# Altium schematic symbol library SamacSys_Parts.SchLib: 52 symbols
Pins are listed as number, name and electrical type; pins without a type are passive.

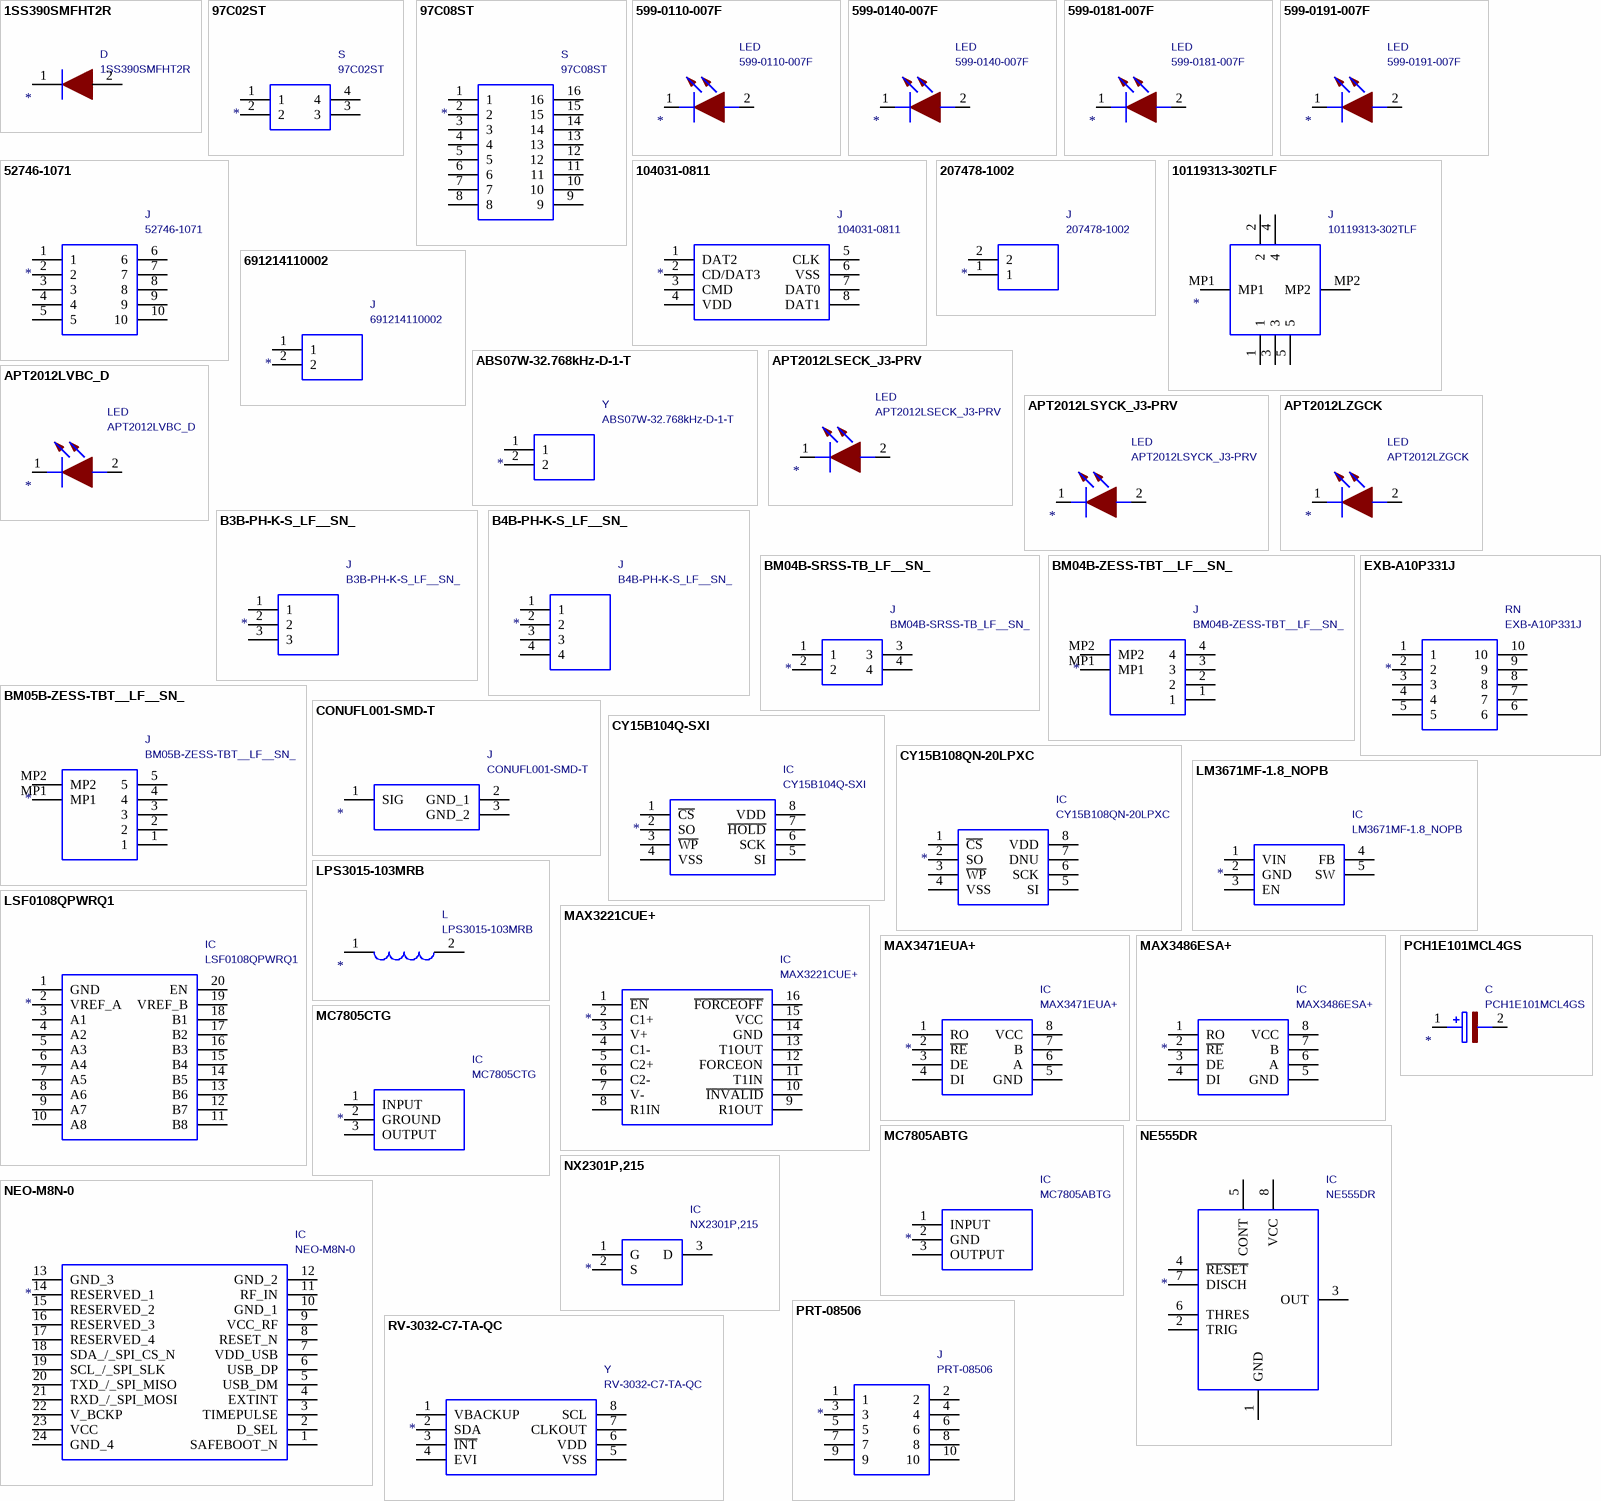
[diagram p0: symbols 1SS390SMFHT2R to RV-3032-C7-TA-QC]

## 1SS390SMFHT2R
designator D  value 1SS390SMFHT2R
Diodes - General Purpose, Power, Switching Band Switching Diode EMD2; Manufacturer_Name: ROHM Semiconductor; Footprint: SODFL1608X70N; Supplier: https://componentsearchengine.com/Datasheets/2/1SS390SMFHT2R.pdf; Description_: Diodes - General Purpose, Power, Switching Band Switching Diode EMD2; Height: 0.7; Mouser Part Number: 755-1SS390SMFHT2R; Mouser Price/Stock: https://www.mouser.co.uk/ProductDetail/ROHM-Semiconductor/1SS390SMFHT2R?qs=0lSvoLzn4L%2FO2HkvK5CJsQ%3D%3D; Manufacturer_Part_Number: 1SS390SMFHT2R
footprint SODFL1608X70N
pins: 1, 2

## 97C02ST
designator S  value 97C02ST
2 Way Surface Mount Slide Switch SPST; Manufacturer_Name: Grayhill; Footprint: SOIC127P671X150-4N; Supplier: https://componentsearchengine.com/Datasheets/1/97C02ST.pdf; Description_: 2 Way Surface Mount Slide Switch SPST; Height: 1.5; Mouser Part Number: 706-97C02ST; Mouser Price/Stock: https://www.mouser.co.uk/ProductDetail/Grayhill/97C02ST?qs=ls7QRyWmRk54avEDvMxuYA%3D%3D; Manufacturer_Part_Number: 97C02ST
footprint SOIC127P671X150-4N
pins: 1, 2, 3, 4

## 97C08ST
designator S  value 97C08ST
8 Way Surface Mount Slide Switch SPST; Manufacturer_Name: Grayhill; Footprint: SOIC127P671X170-16N; Supplier: http://www.grayhill.com/search/?Keywords=97C08ST; Description_: 8 Way Surface Mount Slide Switch SPST; Height: 1.7; Mouser Part Number: 706-97C08ST; Mouser Price/Stock: https://www.mouser.co.uk/ProductDetail/Grayhill/97C08ST?qs=ls7QRyWmRk6QAl4Hs3wGtw%3D%3D; Manufacturer_Part_Number: 97C08ST
footprint SOIC127P671X170-16N
pins: 1, 2, 3, 4, 5, 6, 7, 8, 9, 10, 11, 12, 13, 14, 15, 16

## 599-0110-007F
designator LED  value 599-0110-007F
Standard LEDs - SMD SMD 0805 RED; Manufacturer_Name: Dialight; Footprint: LEDM2012X90N; Description_: Standard LEDs - SMD SMD 0805 RED; Height: 0.9; Mouser Part Number: 645-599-0110-007F; Mouser Price/Stock: https://www.mouser.co.uk/ProductDetail/Dialight/599-0110-007F?qs=gTYE2QTfZfS0HtheKY0LlQ%3D%3D; Manufacturer_Part_Number: 599-0110-007F
footprint LEDM2012X90N
pins: 1, 2

## 599-0140-007F
designator LED  value 599-0140-007F
Standard LEDs - SMD SMD 0805 YELLOW; Manufacturer_Name: Dialight; Footprint: LEDC2012X70N; Description_: Standard LEDs - SMD SMD 0805 YELLOW; Height: 0.7; Mouser Part Number: 645-599-0140-007F; Mouser Price/Stock: https://www.mouser.co.uk/ProductDetail/Dialight/599-0140-007F?qs=gTYE2QTfZfQrZszkvWmdFA%3D%3D; Manufacturer_Part_Number: 599-0140-007F
footprint LEDC2012X70N
pins: 1, 2

## 599-0181-007F
designator LED  value 599-0181-007F
Standard LEDs - SMD SMD 0805 GREEN; Manufacturer_Name: Dialight; Footprint: LEDC2012X70N; Description_: Standard LEDs - SMD SMD 0805 GREEN; Height: 0.7; Mouser Part Number: 645-599-0181-007F; Mouser Price/Stock: https://www.mouser.co.uk/ProductDetail/Dialight/599-0181-007F/?qs=gTYE2QTfZfRUSax8JbgA2w%3D%3D; Manufacturer_Part_Number: 599-0181-007F
footprint LEDC2012X70N
pins: 1, 2

## 599-0191-007F
designator LED  value 599-0191-007F
Standard LEDs - SMD SMD 0805 BLUE; Manufacturer_Name: Dialight; Footprint: LEDC2012X90N; Supplier: https://componentsearchengine.com/Datasheets/1/599-0191-007F.pdf; Description_: Standard LEDs - SMD SMD 0805 BLUE; Height: 0.9; Mouser Part Number: 645-599-0191-007F; Mouser Price/Stock: https://www.mouser.co.uk/ProductDetail/Dialight/599-0191-007F/?qs=gTYE2QTfZfTbWzs5Ohdbbg%3D%3D; Manufacturer_Part_Number: 599-0191-007F
footprint LEDC2012X90N
pins: 1, 2

## 52746-1071
designator J  value 52746-1071
0.5 FPC ZIF Housing Assembly RA 10w Molex FFC/FPC SMT Series 0.5mm Pitch 10 Way 1 Row Right Angle SMT Female FPC Connector; Footprint: 52746-1071; Supplier: http://www.molex.com/pdm_docs/sd/527461071_sd.pdf; Description_: 0.5 FPC ZIF Housing Assembly RA 10w Molex FFC/FPC SMT Series 0.5mm Pitch 10 Way 1 Row Right Angle SMT Female FPC Connector; Mouser Part Number: 538-52746-1071; Mouser Price/Stock: https://www.mouser.co.uk/ProductDetail/Molex/52746-1071?qs=gi08C7HaimYPHJccIEZoxg%3D%3D; Manufacturer_Name: Molex; Manufacturer_Part_Number: 52746-1071
footprint 52746-1071
pins: 1, 2, 3, 4, 5, 6, 7, 8, 9, 10

## 104031-0811
designator J  value 104031-0811
microSD 1.10mm SMT push-pull memory card microSD 1.10mm SMT push-pull memory card; Manufacturer_Name: Molex; Footprint: 1040310811; Supplier: http://www.molex.com/webdocs/datasheets/pdf/en-us/1040310811_MEMORY_CARD_SOCKET.pdf; Description_: microSD 1.10mm SMT push-pull memory card microSD 1.10mm SMT push-pull memory card; Mouser Part Number: 538-104031-0811; Mouser Price/Stock: https://www.mouser.co.uk/ProductDetail/Molex/104031-0811?qs=udsGRKD4nA3Tvy7wqky%252BuA%3D%3D; Manufacturer_Part_Number: 104031-0811
footprint 1040310811
pins: 1 DAT2, 2 CD/DAT3, 3 CMD, 4 VDD, 5 CLK, 6 VSS, 7 DAT0, 8 DAT1

## 207478-1002
designator J  value 207478-1002
Power to the Board L1NK 396 HDR VRT UNSHRD 2CKT W/PG Sn; Manufacturer_Name: Molex; Footprint: 2074781002; Supplier: https://componentsearchengine.com/Datasheets/1/207478-1002.pdf; Description_: Power to the Board L1NK 396 HDR VRT UNSHRD 2CKT W/PG Sn; Height: 14.35; Mouser Part Number: 538-207478-1002; Mouser Price/Stock: https://www.mouser.co.uk/ProductDetail/Molex/207478-1002?qs=d9U39LAeJF0u%2FwtSMgHBRw%3D%3D; Manufacturer_Part_Number: 207478-1002
footprint 2074781002
pins: 1, 2

## 10119313-302TLF
designator J  value 10119313-302TLF
USB Connectors 10119313-302TLF-MINI USB 6PF VERTICAL TY; Manufacturer_Name: Amphenol; Footprint: 10119313302TLF; Supplier: https://www.arrow.com/en/products/10119313-302tlf/amphenol-fci; Description_: USB Connectors 10119313-302TLF-MINI USB 6PF VERTICAL TY; Height: 9.55; Mouser Part Number: 649-10119313-302TLF; Mouser Price/Stock: https://www.mouser.co.uk/ProductDetail/Amphenol-FCI/10119313-302TLF/?qs=QcFhgjUTvvpTzLjwlVEXAA%3D%3D; Manufacturer_Part_Number: 10119313-302TLF
footprint 10119313302TLF
pins: 1, 2, 3, 4, 5, MP1, MP2

## 691214110002
designator J  value 691214110002
3.5MM HORIZONTAL ENTRY MODULAR WITH RISING CAGE CLAMP - WR-TBL, 2 pos; Manufacturer_Name: Wurth Elektronik; Footprint: 691214110002; Description_: 3.5MM HORIZONTAL ENTRY MODULAR WITH RISING CAGE CLAMP - WR-TBL, 2 pos; Height: 8.7; Mouser Part Number: 710-691214110002; Mouser Price/Stock: https://www.mouser.co.uk/ProductDetail/Wurth-Elektronik/691214110002?qs=7gQLVZk5cPmb9EqUyfv%252B2g%3D%3D; Manufacturer_Part_Number: 691214110002
footprint 691214110002
pins: 1, 2

## ABS07W-32.768kHz-D-1-T
designator Y  value ABS07W-32.768kHz-D-1-T
Abracon 32.768kHz Crystal 2-SMD, No Lead 3.2 x1.5 x 0.9mm; Footprint: ABS07AIG32768kHz71T; Supplier: https://abracon.com/iotoptimized_quartzcrystals/assets/ABS07W.pdf; Description_: Abracon 32.768kHz Crystal 2-SMD, No Lead 3.2 x1.5 x 0.9mm; Height: 0; Mouser Part Number: 815-ABS07W32.768KD1T; Mouser Price/Stock: https://www.mouser.co.uk/ProductDetail/ABRACON/ABS07W-32768kHz-D-1-T?qs=gt1LBUVyoHkAxRCX40dcAg%3D%3D; Manufacturer_Name: ABRACON; Manufacturer_Part_Number: ABS07W-32.768kHz-D-1-T
footprint ABS07AIG32768kHz71T
pins: 1, 2

## APT2012LSECK_J3-PRV
designator LED  value APT2012LSECK_J3-PRV
Standard LEDs - SMD 2.0X1.2MM LOW CRNT; Manufacturer_Name: Kingbright; Manufacturer_Part_Number: APT2012LSECK/J3-PRV; Footprint: LEDC2012X75N; Supplier: http://www.kingbrightusa.com/images/catalog/SPEC/APT2012LSECK-J3-PRV.pdf; Description_: Standard LEDs - SMD 2.0X1.2MM LOW CRNT; Height: 0.75; Mouser Part Number: 604-APT2012LSECKJ3RV; Mouser Price/Stock: https://www.mouser.co.uk/ProductDetail/Kingbright/APT2012LSECK-J3-PRV?qs=6oMev5NRZMEkGJkKIsAalQ%3D%3D
footprint LEDC2012X75N
pins: 1, 2

## APT2012LSYCK_J3-PRV
designator LED  value APT2012LSYCK_J3-PRV
Standard LEDs - SMD 2.0X1.2MM LOW CRNT; Manufacturer_Name: Kingbright; Manufacturer_Part_Number: APT2012LSYCK/J3-PRV; Footprint: LEDC2012X85N; Supplier: http://www.kingbrightusa.com/images/catalog/SPEC/APT2012LSYCK-J3-PRV.pdf; Description_: Standard LEDs - SMD 2.0X1.2MM LOW CRNT; Height: 0.85; Mouser Part Number: 604-APT2012LSYCKJ3RV; Mouser Price/Stock: https://www.mouser.co.uk/ProductDetail/Kingbright/APT2012LSYCK-J3-PRV?qs=6oMev5NRZMGoWLCc4feqUg%3D%3D
footprint LEDC2012X85N
pins: 1, 2

## APT2012LVBC_D
designator LED  value APT2012LVBC_D
Standard LEDs - SMD 2.0X1.2MM LOW CRNT; Manufacturer_Name: Kingbright; Manufacturer_Part_Number: APT2012LVBC/D; Footprint: LEDC2012X85N; Supplier: https://componentsearchengine.com/Datasheets/1/APT2012LVBC_D.pdf; Description_: Standard LEDs - SMD 2.0X1.2MM LOW CRNT; Height: 0.85; Mouser Part Number: 604-APT2012LVBCD; Mouser Price/Stock: https://www.mouser.co.uk/ProductDetail/Kingbright/APT2012LVBC-D?qs=6oMev5NRZMGErJYT6KZLXg%3D%3D
footprint LEDC2012X85N
pins: 1, 2

## APT2012LZGCK
designator LED  value APT2012LZGCK
Standard LEDs - SMD 2.0X1.2MM LOW CRNT; Manufacturer_Name: Kingbright; Footprint: LEDC2012X85N; Supplier: http://www.kingbrightusa.com/images/catalog/SPEC/APT2012LZGCK.pdf; Description_: Standard LEDs - SMD 2.0X1.2MM LOW CRNT; Height: 0.85; Mouser Part Number: 604-APT2012LZGCK; Mouser Price/Stock: https://www.mouser.co.uk/ProductDetail/Kingbright/APT2012LZGCK?qs=6oMev5NRZMHOosFiXb%2F3qw%3D%3D; Manufacturer_Part_Number: APT2012LZGCK
footprint LEDC2012X85N
pins: 1, 2

## B3B-PH-K-S_LF__SN_
designator J  value B3B-PH-K-S_LF__SN_
WIRE-BOARD CONNECTOR, HEADER, 3 POSITION, 2MM; Pitch Spacing:2mm; No. of Contacts:3Contacts; Gender:Header; Product Range:PH Series; Contact Termination Type:Crimp; No. of Rows:1Rows; Contact Plating:Tin Plated Contacts RoHS Compliant: Yes; Manufacturer_Name: JST Sales America; Manufacturer_Part_Number: B3B-PH-K-S(LF)(SN); Footprint: SHDR3W50P0X200_1X3_790X450X600P; Supplier: http://www.jst-mfg.com/product/pdf/eng/ePH.pdf; Description_: WIRE-BOARD CONNECTOR, HEADER, 3 POSITION, 2MM; Pitch Spacing:2mm; No. of Contacts:3Contacts; Gender:Header; Product Range:PH Series; Contact Termination Type:Crimp; No. of Rows:1Rows; Contact Plating:Tin Plated Contacts RoHS Compliant: Yes; Height: 6
footprint SHDR3W50P0X200_1X3_790X450X600P
pins: 1, 2, 3

## B4B-PH-K-S_LF__SN_
designator J  value B4B-PH-K-S_LF__SN_
PH-2.0mm Header top entry 4 way JST PH Series, Series Number B4B, 2mm Pitch 4 Way 1 Row Straight PCB Header, Through Hole Termination, 2A; Manufacturer_Name: JST (JAPAN SOLDERLESS TERMINALS); Manufacturer_Part_Number: B4B-PH-K-S(LF)(SN); Footprint: SHDR4W50P0X200_1X4_990X450X600P; Description_: PH-2.0mm Header top entry 4 way JST PH Series, Series Number B4B, 2mm Pitch 4 Way 1 Row Straight PCB Header, Through Hole Termination, 2A; Height: 6
footprint SHDR4W50P0X200_1X4_990X450X600P
pins: 1, 2, 3, 4

## BM04B-SRSS-TB_LF__SN_
designator J  value BM04B-SRSS-TB_LF__SN_
JST (JAPAN SOLDERLESS TERMINALS) - BM04B-SRSS-TB(LF)(SN) - HEADER, TOP ENTRY, 4WAY; Footprint: BM04B-SRSS-TB(LFSN); Supplier: http://www.jst.fr/core/file.get?path=doc/jst/family/pdf/eSH.pdf; Description_: JST (JAPAN SOLDERLESS TERMINALS) - BM04B-SRSS-TB(LF)(SN) - HEADER, TOP ENTRY, 4WAY; Manufacturer_Name: JST (JAPAN SOLDERLESS TERMINALS); Manufacturer_Part_Number: BM04B-SRSS-TB(LF)(SN)
footprint BM04B-SRSS-TB(LFSN)
pins: 1, 2, 3, 4

## BM04B-ZESS-TBT__LF__SN_
designator J  value BM04B-ZESS-TBT__LF__SN_
JST ZE Series, Series Number BM04B, 1.5mm Pitch 4 Way 1 Row Straight PCB Header, SMT Termination, 2A; Manufacturer_Name: JST (JAPAN SOLDERLESS TERMINALS); Manufacturer_Part_Number: BM04B-ZESS-TBT (LF)(SN); Footprint: BM04BZESSTBTLFSN; Supplier: http://www.jst-mfg.com/product/pdf/eng/eZE.pdf; Description_: JST ZE Series, Series Number BM04B, 1.5mm Pitch 4 Way 1 Row Straight PCB Header, SMT Termination, 2A; Height: 5.8; Arrow Part Number: BM04B-ZESS-TBT (LF)(SN); Arrow Price/Stock: https://www.arrow.com/en/products/bm04b-zess-tbt-lf-sn/jst-manufacturing
footprint BM04BZESSTBTLFSN
pins: 1, 2, 3, 4, MP1, MP2

## BM05B-ZESS-TBT__LF__SN_
designator J  value BM05B-ZESS-TBT__LF__SN_
ZE-1.5mm SMT taped 5way Header+suction JST ZE Series, Series Number BM0B, 1.5mm Pitch 5 Way 1 Row Shrouded Straight PCB Header, Surface Mount; Manufacturer_Name: JST (JAPAN SOLDERLESS TERMINALS); Manufacturer_Part_Number: BM05B-ZESS-TBT (LF)(SN); Footprint: BM05BZESSTBTLFSN; Supplier: https://www.arrow.com/en/products/bm05b-zess-tbt-lf-sn/jst-manufacturing; Description_: ZE-1.5mm SMT taped 5way Header+suction JST ZE Series, Series Number BM0B, 1.5mm Pitch 5 Way 1 Row Shrouded Straight PCB Header, Surface Mount; Height: 7.5; Arrow Part Number: BM05B-ZESS-TBT (LF)(SN); Arrow Price/Stock: https://www.arrow.com/en/products/bm05b-zess-tbt-lf-sn/jst-manufacturing
footprint BM05BZESSTBTLFSN
pins: 1, 2, 3, 4, 5, MP1, MP2

## CONUFL001-SMD-T
designator J  value CONUFL001-SMD-T
RF Connectors / Coaxial Connectors T&R U.FL Straight Surface Mount Jack; Manufacturer_Name: Linx Technologies; Footprint: CONUFL001-SMD; Supplier: https://linxtechnologies.com/wp/product/mhf-rf-connectors/; Description_: RF Connectors / Coaxial Connectors T&R U.FL Straight Surface Mount Jack; Mouser Part Number: 712-CONUFL001-SMD-T; Mouser Price/Stock: https://www.mouser.co.uk/ProductDetail/Linx-Technologies/CONUFL001-SMD-T?qs=EU6FO9ffTwfRdkBeQTdJWQ%3D%3D; Manufacturer_Part_Number: CONUFL001-SMD-T
footprint CONUFL001-SMD
pins: 1 SIG, 2 GND_1, 3 GND_2

## CY15B104Q-SXI
designator IC  value CY15B104Q-SXI
F-RAM,512KB,SPI,3V,SOIC8 CY15B104Q-SXI Serial-SPI FRAM Memory, 4Mbit, 2  3.6 V 8-Pin SOIC; Manufacturer_Name: Cypress Semiconductor; Footprint: SOIC127P800X203-8N; Supplier: http://www.cypress.com/file/209146/download; Description_: F-RAM,512KB,SPI,3V,SOIC8 CY15B104Q-SXI Serial-SPI FRAM Memory, 4Mbit, 2  3.6 V 8-Pin SOIC; Height: 2.03; Mouser Part Number: 727-CY15B104Q-SXI; Mouser Price/Stock: https://www.mouser.co.uk/ProductDetail/Cypress-Semiconductor/CY15B104Q-SXI?qs=2De2tSDgB01Uyxkl7oDfXA%3D%3D; Manufacturer_Part_Number: CY15B104Q-SXI
footprint SOIC127P800X203-8N
pins: 1 ~{CS}, 2 SO, 3 ~{WP}, 4 VSS, 5 SI, 6 SCK, 7 ~{HOLD}, 8 VDD

## CY15B108QN-20LPXC
designator IC  value CY15B108QN-20LPXC
Cypress Semiconductor, CY15B108QN-20LPXC; Footprint: SON65P323X328X55-8N; Supplier: https://www.arrow.com/en/products/cy15b108qn-20lpxc/cypress-semiconductor; Description_: Cypress Semiconductor, CY15B108QN-20LPXC; Height: 0.55; Mouser Part Number: 727-CY15B108QN20LPXC; Mouser Price/Stock: https://www.mouser.co.uk/ProductDetail/Cypress-Semiconductor/CY15B108QN-20LPXC?qs=P1JMDcb91o5srFPNWUxrEA%3D%3D; Manufacturer_Name: Cypress Semiconductor; Manufacturer_Part_Number: CY15B108QN-20LPXC
footprint SON65P323X328X55-8N
pins: 1 ~{CS}, 2 SO, 3 ~{WP}, 4 VSS, 5 SI, 6 SCK, 7 DNU, 8 VDD

## EXB-A10P331J
designator RN  value EXB-A10P331J
Resistor Networks & Arrays Resistor ArrayChip 8 elements; Manufacturer_Name: Panasonic; Footprint: EXBA10P331J; Supplier: https://componentsearchengine.com/Datasheets/1/EXB-A10P331J.pdf; Description_: Resistor Networks & Arrays Resistor ArrayChip 8 elements; Height: 0.65; Mouser Part Number: 667-EXB-A10P331J; Mouser Price/Stock: https://www.mouser.co.uk/ProductDetail/Panasonic/EXB-A10P331J?qs=WwqriLBepZvPU9MyUgMnKg%3D%3D; Manufacturer_Part_Number: EXB-A10P331J
footprint EXBA10P331J
pins: 1, 2, 3, 4, 5, 6, 7, 8, 9, 10

## LM3671MF-1.8_NOPB
designator IC  value LM3671MF-1.8_NOPB
2MHz, 600mA Step-Down DC-DC Converter; Manufacturer_Name: Texas Instruments; Manufacturer_Part_Number: LM3671MF-1.8/NOPB; Footprint: SOT95P280X145-5N; Supplier: http://www.ti.com/lit/ds/symlink/lm3671.pdf; Description_: 2MHz, 600mA Step-Down DC-DC Converter; Height: 1.45; Mouser Part Number: 926-LM3671MF-1.8NOPB; Mouser Price/Stock: https://www.mouser.co.uk/ProductDetail/Texas-Instruments/LM3671MF-18-NOPB?qs=QbsRYf82W3EhbfgXz3PpIg%3D%3D
footprint SOT95P280X145-5N
pins: 1 VIN, 2 GND, 3 EN, 4 FB, 5 SW

## LPS3015-103MRB
designator L  value LPS3015-103MRB
COILCRAFT - LPS3015-103MRB - INDUCTOR, SHLD, 10UH, 20%, 0.55A, SMD; Footprint: LPS3015; Supplier: https://www.coilcraft.com/pdfs/lps3015.pdf; Description_: COILCRAFT - LPS3015-103MRB - INDUCTOR, SHLD, 10UH, 20%, 0.55A, SMD; Mouser Part Number: 994-LPS3015-103MRB; Mouser Price/Stock: https://www.mouser.co.uk/ProductDetail/Coilcraft/LPS3015-103MRB?qs=QQJxVsr8EGaKHQsQv461ew%3D%3D; Manufacturer_Name: COILCRAFT; Manufacturer_Part_Number: LPS3015-103MRB
footprint LPS3015
pins: 1, 2

## LSF0108QPWRQ1
designator IC  value LSF0108QPWRQ1
Automotive 8-Channel Bidirectional Multi-Voltage-Level Translator; Manufacturer_Name: Texas Instruments; Footprint: SOP65P640X120-20N; Supplier: http://www.ti.com/lit/gpn/lsf0108-q1; Description_: Automotive 8-Channel Bidirectional Multi-Voltage-Level Translator; Height: 1.2; Mouser Part Number: 595-LSF0108QPWRQ1; Mouser Price/Stock: https://www.mouser.co.uk/ProductDetail/Texas-Instruments/LSF0108QPWRQ1?qs=cttFivMKqWyzNqpvH3r%252BdQ%3D%3D; Manufacturer_Part_Number: LSF0108QPWRQ1
footprint SOP65P640X120-20N
pins: 1 GND, 2 VREF_A, 3 A1, 4 A2, 5 A3, 6 A4, 7 A5, 8 A6, 9 A7, 10 A8, 11 B8, 12 B7, 13 B6, 14 B5, 15 B4, 16 B3, 17 B2, 18 B1, 19 VREF_B, 20 EN

## MAX3221CUE+
designator IC  value MAX3221CUE+
MAX3221CUE+, Line Transceiver 1 1 1 235 kbit/s, 3  5.5 V, 16-Pin TSSOP; Manufacturer_Name: Maxim Integrated; Footprint: SOP65P640X110-16N; Supplier: http://datasheets.maximintegrated.com/en/ds/MAX3221-MAX3243.pdf; Description_: MAX3221CUE+, Line Transceiver 1 1 1 235 kbit/s, 3  5.5 V, 16-Pin TSSOP; Height: 1.1; Mouser Part Number: 700-MAX3221CUE; Mouser Price/Stock: https://www.mouser.co.uk/ProductDetail/Maxim-Integrated/MAX3221CUE%2b?qs=1THa7WoU59EZwCeWs5OtSQ%3D%3D; Manufacturer_Part_Number: MAX3221CUE+
footprint SOP65P640X110-16N
pins: 1 ~{EN}, 2 C1+, 3 V+, 4 C1-, 5 C2+, 6 C2-, 7 V-, 8 R1IN, 9 R1OUT, 10 ~{INVALID}, 11 T1IN, 12 FORCEON, 13 T1OUT, 14 GND, 15 VCC, 16 ~{FORCEOFF}

## MAX3471EUA+
designator IC  value MAX3471EUA+
Single Transmitter/Receiver RS-422/485; Manufacturer_Name: Maxim Integrated; Footprint: SOP65P490X110-8N; Description_: Single Transmitter/Receiver RS-422/485; Height: 1.1; Mouser Part Number: 700-MAX3471EUA; Mouser Price/Stock: https://www.mouser.co.uk/ProductDetail/Maxim-Integrated/MAX3471EUA%2b?qs=1THa7WoU59GPWTW%252BBV1kJA%3D%3D; Manufacturer_Part_Number: MAX3471EUA+
footprint SOP65P490X110-8N
pins: 1 RO, 2 ~{RE}, 3 DE, 4 DI, 5 GND, 6 A, 7 B, 8 VCC

## MAX3486ESA+
designator IC  value MAX3486ESA+
MAX3486ESA+, Line Transceiver, RS-485, RS-422 2.5Mbit/s Differential, 3.3 V, 8-Pin SOIC; Manufacturer_Name: Maxim Integrated; Footprint: SOIC127P600X175-8N; Supplier: http://datasheets.maximintegrated.com/en/ds/MAX3483-MAX3491.pdf; Description_: MAX3486ESA+, Line Transceiver, RS-485, RS-422 2.5Mbit/s Differential, 3.3 V, 8-Pin SOIC; Height: 1.75; Mouser Part Number: 700-MAX3486ESA; Mouser Price/Stock: https://www.mouser.co.uk/ProductDetail/Maxim-Integrated/MAX3486ESA%2b?qs=1THa7WoU59FIrgcgBLF9fg%3D%3D; Manufacturer_Part_Number: MAX3486ESA+
footprint SOIC127P600X175-8N
pins: 1 RO, 2 ~{RE}, 3 DE, 4 DI, 5 GND, 6 A, 7 B, 8 VCC

## MC7805ABTG
designator IC  value MC7805ABTG
Voltage Regulator 1A 5V 2% 35Vin TO-220 ON Semiconductor MC7805ABTG, Single Linear Voltage Regulator, 1A 5 V, +/-2%, 3-Pin TO-220; Footprint: TO254P482X997X2018-3P; Supplier: http://www.onsemi.com/pub/Collateral/MC7800-D.PDF; Description_: Voltage Regulator 1A 5V 2% 35Vin TO-220 ON Semiconductor MC7805ABTG, Single Linear Voltage Regulator, 1A 5 V, +/-2%, 3-Pin TO-220; Height: 4.82; Mouser Part Number: 863-MC7805ABTG; Mouser Price/Stock: https://www.mouser.co.uk/ProductDetail/ON-Semiconductor/MC7805ABTG?qs=%252B9%2Fcbd0IE0RLGUepYBL%2Fmg%3D%3D; Manufacturer_Name: ON Semiconductor; Manufacturer_Part_Number: MC7805ABTG
footprint TO254P482X997X2018-3P
pins: 1 INPUT, 2 GND, 3 OUTPUT

## MC7805CTG
designator IC  value MC7805CTG
Voltage regulator,MC7805CT 5V 1A ON Semiconductor MC7805CTG, Single Linear Voltage Regulator, 1A 5 V, +/-4%, 3-Pin TO-220; Footprint: TO254P482X997X2018-3P; Supplier: http://www.onsemi.com/pub/Collateral/MC7800-D.PDF; Description_: Voltage regulator,MC7805CT 5V 1A ON Semiconductor MC7805CTG, Single Linear Voltage Regulator, 1A 5 V, +/-4%, 3-Pin TO-220; Height: 4.82; Mouser Part Number: 863-MC7805CTG; Mouser Price/Stock: https://www.mouser.co.uk/ProductDetail/ON-Semiconductor/MC7805CTG?qs=%252B9%2Fcbd0IE0SRQQJXyw%252B9hQ%3D%3D; Manufacturer_Name: ON Semiconductor; Manufacturer_Part_Number: MC7805CTG
footprint TO254P482X997X2018-3P
pins: 1 INPUT, 2 GROUND, 3 OUTPUT

## NE555DR
designator IC  value NE555DR
Single Precision Timer; Manufacturer_Name: Texas Instruments; Footprint: SOIC127P600X175-8N; Supplier: http://www.ti.com/lit/ds/symlink/ne555.pdf; Description_: Single Precision Timer; Height: 1.75; Manufacturer_Part_Number: NE555DR; Mouser Part Number: 595-NE555DR; Mouser Price/Stock: https://www.mouser.com/Search/Refine.aspx?Keyword=595-NE555DR; RS Part Number: 1218414; RS Price/Stock: http//uk.rs-online.com/web/p/products/1218414
footprint SOIC127P600X175-8N
pins: 1 GND, 2 TRIG, 3 OUT, 4 ~{RESET}, 5 CONT, 6 THRES, 7 DISCH, 8 VCC

## NEO-M8N-0
designator IC  value NEO-M8N-0
IC RECEIVER GPS/GNSS 24LCC; Manufacturer_Name: U-Blox; Footprint: NEO-M8T; Supplier: https://www.u-blox.com/sites/default/files/NEO-M8-FW3_DataSheet_%28UBX-15031086%29.pdf; Description_: IC RECEIVER GPS/GNSS 24LCC; Mouser Part Number: 377-NEO-M8N-0; Mouser Price/Stock: https://www.mouser.co.uk/ProductDetail/u-blox/NEO-M8N-0?qs=zW32dvEIR3unZhZI0KRbew%3D%3D; Manufacturer_Part_Number: NEO-M8N-0
footprint NEO-M8T
pins: 1 SAFEBOOT_N, 2 D_SEL, 3 TIMEPULSE, 4 EXTINT, 5 USB_DM, 6 USB_DP, 7 VDD_USB, 8 RESET_N, 9 VCC_RF, 10 GND_1, 11 RF_IN, 12 GND_2, 13 GND_3, 14 RESERVED_1, 15 RESERVED_2, 16 RESERVED_3, 17 RESERVED_4, 18 SDA_/_SPI_CS_N, 19 SCL_/_SPI_SLK, 20 TXD_/_SPI_MISO, 21 RXD_/_SPI_MOSI, 22 V_BCKP, 23 VCC, 24 GND_4

## NX2301P,215
designator IC  value NX2301P,215
MOSFET P-CH -20 V -2 A; Manufacturer_Name: Nexperia; Footprint: SOT95P230X110-3N; Supplier: http://www.nxp.com/documents/data_sheet/NX2301P.pdf; Description_: MOSFET P-CH -20 V -2 A; Height: 1.1; Mouser Part Number: 771-NX2301P215; Mouser Price/Stock: https://www.mouser.co.uk/ProductDetail/Nexperia/NX2301P215?qs=A1cBxND5mHKs%252BLrxCDENxw%3D%3D; Manufacturer_Part_Number: NX2301P,215
footprint SOT95P230X110-3N
pins: 1 G, 2 S, 3 D

## PCH1E101MCL4GS
designator C  value PCH1E101MCL4GS
Aluminum Organic Polymer Capacitors 100UF     25V ESR=27; Manufacturer_Name: Nichicon; Footprint: CAPAE660X840N; Supplier: https://componentsearchengine.com/Datasheets/2/PCH1E101MCL4GS.pdf; Description_: Aluminum Organic Polymer Capacitors 100UF     25V ESR=27; Height: 8.4; Mouser Part Number: 647-PCH1E101MCL4GS; Mouser Price/Stock: https://www.mouser.co.uk/ProductDetail/Nichicon/PCH1E101MCL4GS?qs=vmHwEFxEFR%252Bar6ugXaASOA%3D%3D; Manufacturer_Part_Number: PCH1E101MCL4GS
footprint CAPAE660X840N
pins: 1, 2

## PRT-08506
designator J  value PRT-08506
SparkFun Accessories 2x5 Pin Shrouded Header; Footprint: PRT08506; Supplier: https://www.sparkfun.com/datasheets/Prototyping/Shrouded-10pin.pdf; Description_: SparkFun Accessories 2x5 Pin Shrouded Header; Height: 9.35; Mouser Part Number: 474-PRT-08506; Mouser Price/Stock: https://www.mouser.co.uk/ProductDetail/SparkFun/PRT-08506?qs=WyAARYrbSnY9pAhwbp%252BzlQ%3D%3D; Manufacturer_Name: SparkFun; Manufacturer_Part_Number: PRT-08506
footprint PRT08506
pins: 1, 2, 3, 4, 5, 6, 7, 8, 9, 10

## RV-3032-C7-TA-QC
designator Y  value RV-3032-C7-TA-QC
RV-3032-C7, Real-Time Clock, IC-bus, 3ppm @ 25C -40 to +85C     (SMD 3.2 x 1.5 x 0.8); Manufacturer_Name: Micro Crystal AG; Footprint: RV3032C7TAQA; Supplier: https://www.microcrystal.com/fileadmin/Media/Products/RTC/Datasheet/RV-3032-C7.pdf; Description_: RV-3032-C7, Real-Time Clock, IC-bus, 3ppm @ 25C -40 to +85C     (SMD 3.2 x 1.5 x 0.8); Height: 0.8; Manufacturer_Part_Number: RV-3032-C7-TA-QC
footprint RV3032C7TAQA
pins: 1 VBACKUP, 2 SDA, 3 ~{INT}, 4 EVI, 5 VSS, 6 VDD, 7 CLKOUT, 8 SCL

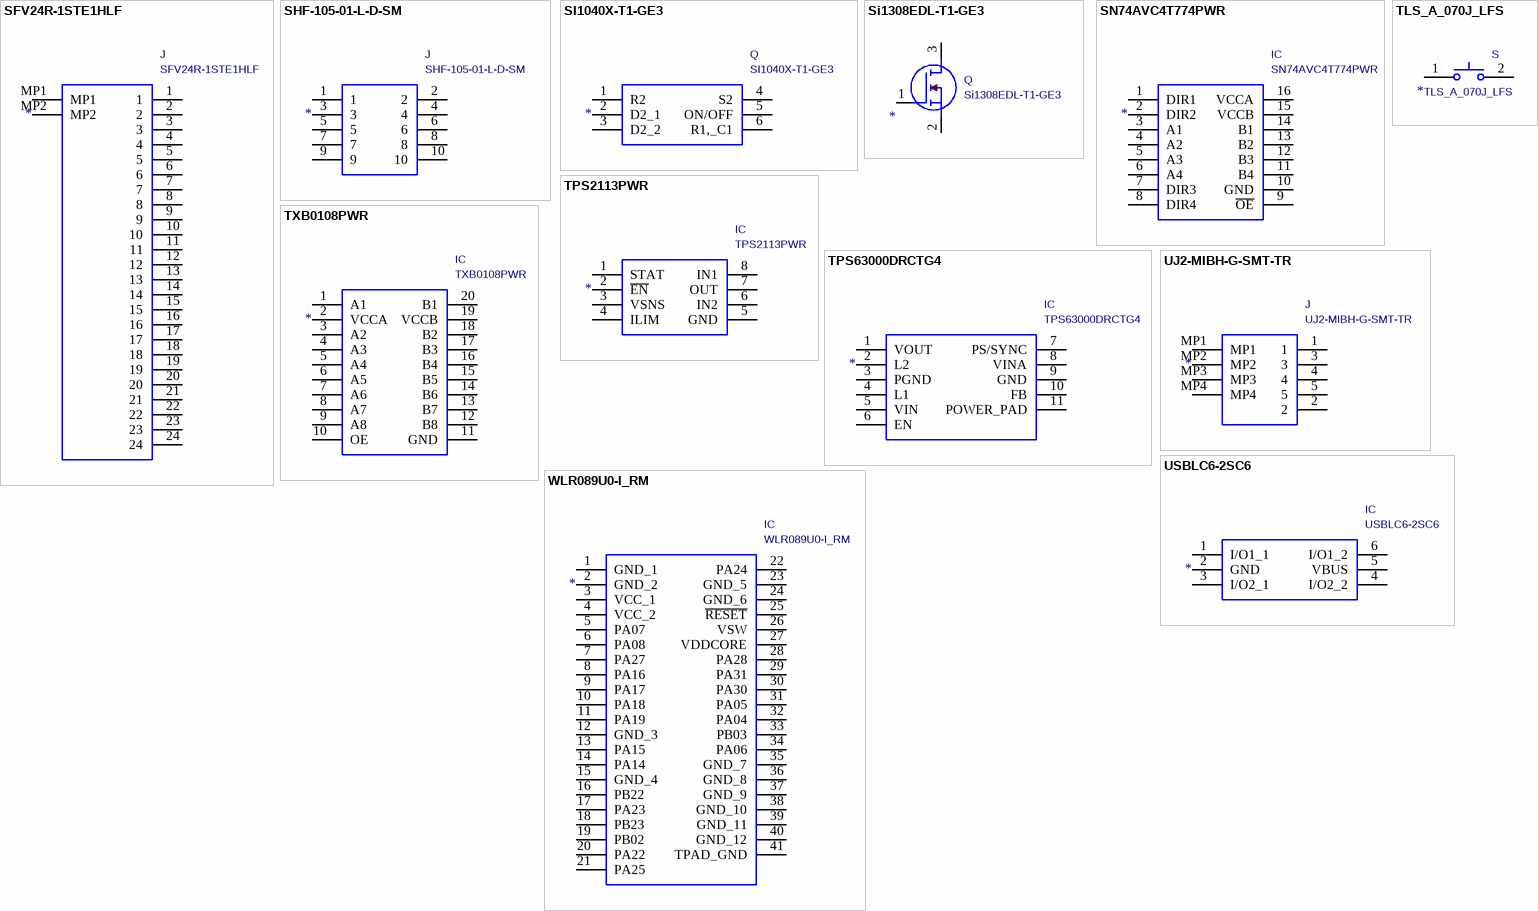
[diagram p1: symbols SFV24R-1STE1HLF to WLR089U0-I_RM]

## SFV24R-1STE1HLF
designator J  value SFV24R-1STE1HLF
AMPHENOL ICC (FCI) - SFV24R-1STE1HLF - CONN, FFC/FPC, RCPT, 24POS, 0.5MM, SMT; Footprint: SFV24R1STE1HLF; Description_: AMPHENOL ICC (FCI) - SFV24R-1STE1HLF - CONN, FFC/FPC, RCPT, 24POS, 0.5MM, SMT; Height: 2; Mouser Part Number: 649-SFV24R-1STE1HLF; Mouser Price/Stock: https://www.mouser.co.uk/ProductDetail/Amphenol-FCI/SFV24R-1STE1HLF?qs=7JiUwvV4mh7h3ciCysYrfg%3D%3D; Manufacturer_Name: Amphenol; Manufacturer_Part_Number: SFV24R-1STE1HLF
footprint SFV24R1STE1HLF
pins: 1, 2, 3, 4, 5, 6, 7, 8, 9, 10, 11, 12, 13, 14, 15, 16, 17, 18, 19, 20, 21, 22, 23, 24, MP1, MP2

## SHF-105-01-L-D-SM
designator J  value SHF-105-01-L-D-SM
10 Position, Dual - Row, Shrouded Terminal Strip, 0.050&quot; pitch; Manufacturer_Name: SAMTEC; Footprint: SHF-105-01-X-D-SM; Supplier: http://suddendocs.samtec.com/prints/shf-1xx-01-x-d-xx-xx-mkt.pdf; Description_: 10 Position, Dual - Row, Shrouded Terminal Strip, 0.050&quot; pitch; Mouser Part Number: 200-SHF10501LDSM; Mouser Price/Stock: https://www.mouser.co.uk/ProductDetail/Samtec/SHF-105-01-L-D-SM/?qs=92ilVni64gzDB%252BvALG5zyg%3D%3D; Manufacturer_Part_Number: SHF-105-01-L-D-SM
footprint SHF-105-01-X-D-SM
pins: 1, 2, 3, 4, 5, 6, 7, 8, 9, 10

## SI1040X-T1-GE3
designator Q  value SI1040X-T1-GE3
MOSFET -8V Vds V Vgs SC89-6; Manufacturer_Name: Vishay; Footprint: SOTFL50P160X60-6N; Supplier: https://www.vishay.com/docs/71809/si1040x.pdf; Description_: MOSFET -8V Vds V Vgs SC89-6; Height: 0.6; Mouser Part Number: 781-SI1040X-T1-GE3; Mouser Price/Stock: https://www.mouser.co.uk/ProductDetail/Vishay-Semiconductors/SI1040X-T1-GE3?qs=tWM4QuTcS4WRJw%2FdSgdX6Q%3D%3D; Manufacturer_Part_Number: SI1040X-T1-GE3
footprint SOTFL50P160X60-6N
pins: 1 R2, 2 D2_1, 3 D2_2, 4 S2, 5 ON/OFF, 6 R1,_C1

## Si1308EDL-T1-GE3
designator Q  value Si1308EDL-T1-GE3
MOSFET N-Ch 30V 1.5A TrenchFET SC70 Vishay Si1308EDL-T1-GE3 N-channel MOSFET Transistor, 1.5 A, 30 V, 3-Pin SC-70; Footprint: SOT65P210X110-3N; Supplier: https://componentsearchengine.com/Datasheets/1/SI1308EDL-T1-GE3.pdf; Description_: MOSFET N-Ch 30V 1.5A TrenchFET SC70 Vishay Si1308EDL-T1-GE3 N-channel MOSFET Transistor, 1.5 A, 30 V, 3-Pin SC-70; Height: 1.1; Mouser Part Number: 78-SI1308EDL-T1-GE3; Mouser Price/Stock: https://www.mouser.co.uk/ProductDetail/Vishay-Semiconductors/SI1308EDL-T1-GE3/?qs=bX1%252BNvsK%2FBramh9tgpOaEw%3D%3D; Manufacturer_Name: Vishay; Manufacturer_Part_Number: Si1308EDL-T1-GE3
footprint SOT65P210X110-3N
pins: 1, 2, 3

## SN74AVC4T774PWR
designator IC  value SN74AVC4T774PWR
4-Bit Dual-Supply Bus Transceiver With Configurable Voltage-Level Shifting and 3-State Outputs; Manufacturer_Name: Texas Instruments; Footprint: SOP65P640X120-16N; Supplier: http://www.ti.com/lit/gpn/sn74avc4t774; Description_: 4-Bit Dual-Supply Bus Transceiver With Configurable Voltage-Level Shifting and 3-State Outputs; Height: 1.2; Mouser Part Number: 595-SN74AVC4T774PWR; Mouser Price/Stock: https://www.mouser.co.uk/ProductDetail/Texas-Instruments/SN74AVC4T774PWR?qs=WxL8HmPi5r562Eu%2F2kE2LA%3D%3D; Manufacturer_Part_Number: SN74AVC4T774PWR
footprint SOP65P640X120-16N
pins: 1 DIR1, 2 DIR2, 3 A1, 4 A2, 5 A3, 6 A4, 7 DIR3, 8 DIR4, 9 ~{OE}, 10 GND, 11 B4, 12 B3, 13 B2, 14 B1, 15 VCCB, 16 VCCA

## TLS_A_070J_LFS
designator S  value TLS_A_070J_LFS
Tactile Switches Top actuated tact, 0.9 mm travel, 7 N, 50% Tactile, J Leads, SMT, 8.6 x 8.4 x 3.95 mm, Soft Actuator; Manufacturer_Name: C & K COMPONENTS; Manufacturer_Part_Number: TLS A 070J LFS; Footprint: TLSA070JLFS; Supplier: https://www.mouser.ph/datasheet/2/60/tls-1846606.pdf; Description_: Tactile Switches Top actuated tact, 0.9 mm travel, 7 N, 50% Tactile, J Leads, SMT, 8.6 x 8.4 x 3.95 mm, Soft Actuator; Mouser Part Number: 611-TLSA070JLFS; Mouser Price/Stock: https://www.mouser.co.uk/ProductDetail/CK/TLS-A-070J-LFS?qs=GedFDFLaBXEdAqJ422mDcw%3D%3D
footprint TLSA070JLFS
pins: 1, 2

## TPS2113PWR
designator IC  value TPS2113PWR
Dual In/Single Out Autoswitching Power MUX, Auto Sw, Adj. Cur Limit, Adj. Vol Threshold, Sw Status; Manufacturer_Name: Texas Instruments; Footprint: SOP65P640X120-8N; Supplier: http://www.ti.com/lit/ds/symlink/tps2113.pdf; Description_: Dual In/Single Out Autoswitching Power MUX, Auto Sw, Adj. Cur Limit, Adj. Vol Threshold, Sw Status; Height: 1.2; Mouser Part Number: 595-TPS2113PWR; Mouser Price/Stock: https://www.mouser.co.uk/ProductDetail/Texas-Instruments/TPS2113PWR?qs=ojKcPFmCWSUJzuMPtPVtlA%3D%3D; Manufacturer_Part_Number: TPS2113PWR
footprint SOP65P640X120-8N
pins: 1 STAT, 2 ~{EN}, 3 VSNS, 4 ILIM, 5 GND, 6 IN2, 7 OUT, 8 IN1

## TPS63000DRCTG4
designator IC  value TPS63000DRCTG4
HIGH EFFICIENT SINGLE INDUCTOR BUCK-BOOST CONVERTER WITH 1.8-A SWITCHES; Manufacturer_Name: Texas Instruments; Footprint: SON50P300X300X100-11N; Description_: HIGH EFFICIENT SINGLE INDUCTOR BUCK-BOOST CONVERTER WITH 1.8-A SWITCHES; Mouser Part Number: 595-TPS63000DRCTG4; Mouser Price/Stock: https://www.mouser.co.uk/ProductDetail/Texas-Instruments/TPS63000DRCTG4?qs=dNgDIb2ed6TYLp61BdJlAw%3D%3D; Manufacturer_Part_Number: TPS63000DRCTG4
footprint SON50P300X300X100-11N
pins: 1 VOUT, 2 L2, 3 PGND, 4 L1, 5 VIN, 6 EN, 7 PS/SYNC, 8 VINA, 9 GND, 10 FB, 11 POWER_PAD

## TXB0108PWR
designator IC  value TXB0108PWR
8-Bit Bidirectional Voltage-Level Shifter with Auto Direction Sensing and +/-15-kV ESD Protect; Manufacturer_Name: Texas Instruments; Footprint: SOP65P640X120-20N; Supplier: http://www.ti.com/lit/ds/symlink/txb0108.pdf; Description_: 8-Bit Bidirectional Voltage-Level Shifter with Auto Direction Sensing and +/-15-kV ESD Protect; Height: 1.2; Mouser Part Number: 595-TXB0108PWR; Mouser Price/Stock: https://www.mouser.co.uk/ProductDetail/Texas-Instruments/TXB0108PWR?qs=oFXvjAmG9EgEUWGWzOVFCA%3D%3D; Manufacturer_Part_Number: TXB0108PWR
footprint SOP65P640X120-20N
pins: 1 A1, 2 VCCA, 3 A2, 4 A3, 5 A4, 6 A5, 7 A6, 8 A7, 9 A8, 10 OE, 11 GND, 12 B8, 13 B7, 14 B6, 15 B5, 16 B4, 17 B3, 18 B2, 19 VCCB, 20 B1

## UJ2-MIBH-G-SMT-TR
designator J  value UJ2-MIBH-G-SMT-TR
USB Connectors; Manufacturer_Name: CUI Inc.; Footprint: UJ2MIBHGSMTTR; Description_: USB Connectors; Height: 3.15; Mouser Part Number: 490-UJ2-MIBH-G-SMTTR; Mouser Price/Stock: https://www.mouser.co.uk/ProductDetail/CUI-Devices/UJ2-MIBH-G-SMT-TR?qs=IS%252B4QmGtzzpvS1XQusp0iA%3D%3D; Manufacturer_Part_Number: UJ2-MIBH-G-SMT-TR
footprint UJ2MIBHGSMTTR
pins: 1, 2, 3, 4, 5, MP1, MP2, MP3, MP4

## USBLC6-2SC6
designator IC  value USBLC6-2SC6
TVS Diode Array Uni-Directional USBLC6-2SC6 17V, SOT-23 6-Pin; Manufacturer_Name: STMicroelectronics; Footprint: SOT95P280X145-6N; Supplier: http://www.st.com/st-web-ui/static/active/en/resource/technical/document/datasheet/CD00050750.pdf; Description_: TVS Diode Array Uni-Directional USBLC6-2SC6 17V, SOT-23 6-Pin; Height: 1.45; Manufacturer_Part_Number: USBLC6-2SC6; Mouser Part Number: 511-USBLC6-2SC6; Mouser Price/Stock: https://www.mouser.co.uk/ProductDetail/STMicroelectronics/USBLC6-2SC6?qs=po45yt2pPpu%2FhNIlwQdTlg%3D%3D; Arrow Part Number: USBLC6-2SC6; Arrow Price/Stock: https://www.arrow.com/en/products/usblc6-2sc6/stmicroelectronics
footprint SOT95P280X145-6N
pins: 1 I/O1_1, 2 GND, 3 I/O2_1, 4 I/O2_2, 5 VBUS, 6 I/O1_2

## WLR089U0-I_RM
designator IC  value WLR089U0-I_RM
RF Modules Ultra-low power Long range LoRa module (863-928 MHz); Manufacturer_Name: Microchip; Manufacturer_Part_Number: WLR089U0-I/RM; Footprint: WLR089U0IRM; Supplier: https://ww1.microchip.com/downloads/en/DeviceDoc/WLR089U0-Low-Power-LoRa-Sub-GHz-Module-Data-Sheet-DS70005435A.pdf; Description_: RF Modules Ultra-low power Long range LoRa module (863-928 MHz); Height: 2.8; Mouser Part Number: 579-WLR089U0-I/RM; Mouser Price/Stock: https://www.mouser.co.uk/ProductDetail/Microchip-Technology/WLR089U0-I-RM/?qs=W%2FMpXkg%252BdQ4sfSMsQUYuNg%3D%3D
footprint WLR089U0IRM
pins: 1 GND_1, 2 GND_2, 3 VCC_1, 4 VCC_2, 5 PA07, 6 PA08, 7 PA27, 8 PA16, 9 PA17, 10 PA18, 11 PA19, 12 GND_3, 13 PA15, 14 PA14, 15 GND_4, 16 PB22, 17 PA23, 18 PB23, 19 PB02, 20 PA22, 21 PA25, 22 PA24, 23 GND_5, 24 GND_6, 25 ~{RESET}, 26 VSW, 27 VDDCORE, 28 PA28, 29 PA31, 30 PA30, 31 PA05, 32 PA04, 33 PB03, 34 PA06, 35 GND_7, 36 GND_8, 37 GND_9, 38 GND_10, 39 GND_11, 40 GND_12, 41 TPAD_GND